# EAGLE library part ACS730?-* (library allegro-jqi)
ACS730 series current transducer
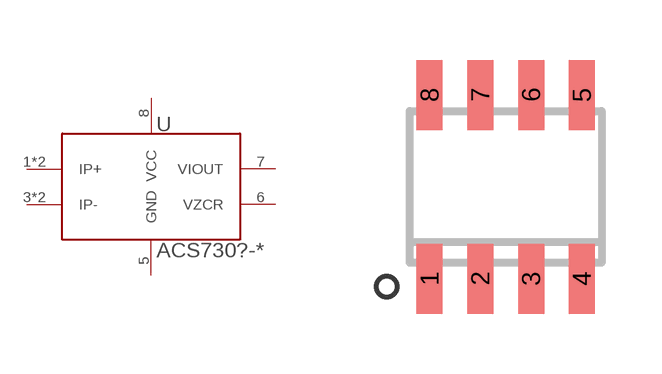
[diagram p0: symbol with the pads of SOICN-8; footprint SOICN-8]

Designator prefix U

## ACS730KLCTR-20AB (CURRENT_RATING: 20 Amps), ACS730KLCTR-40AB (CURRENT_RATING: 40 Amps), ACS730KLCTR-50AB (CURRENT_RATING: 50 Amps)  [SOICN-8]
1  IP+  pas
2  IP+  pas
3  IP-  pas
4  IP-  pas
5  GND  pwr
6  VZCR  out
7  VIOUT  out
8  VCC  pwr

## Footprint SOICN-8 (pad centres in mm)
smd 0.65 x 1.75: 1 -1.905,-2.3; 2 -0.635,-2.3; 3 0.635,-2.3; 4 1.905,-2.3; 5 1.905,2.3; 6 0.635,2.3; 7 -0.635,2.3; 8 -1.905,2.3